# EAGLE library part LMV358 (library IC)
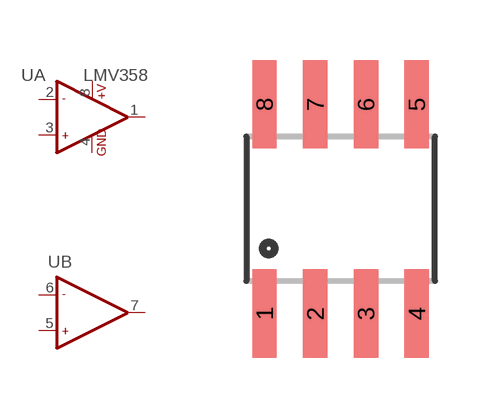
[diagram p66: symbol with the pads of SO08; footprint SO08]

Designator prefix U; gates A=OPAMP_2 B=OPAMP_2_1

## LMV358  [SO08]
1  A:OUT1  out
2  A:-IN1  in
3  A:+IN1  in
4  A:GND  pwr
5  B:+IN2  in
6  B:-IN2  in
7  B:OUT2  out
8  A:+V  pwr

## Footprint SO08 (pad centres in mm)
Small Outline Package
smd 0.61 x 2.21: 1 -1.905,-2.616; 2 -0.635,-2.616; 3 0.635,-2.616; 4 1.905,-2.616; 5 1.905,2.616; 6 0.635,2.616; 7 -0.635,2.616; 8 -1.905,2.616